# EAGLE library part MCP1640 (library SteveMarple)
MCP1640 0.65V Start-up Synchronous Boost Regulator with True Output Disconnect or Input/Output Bypass Option
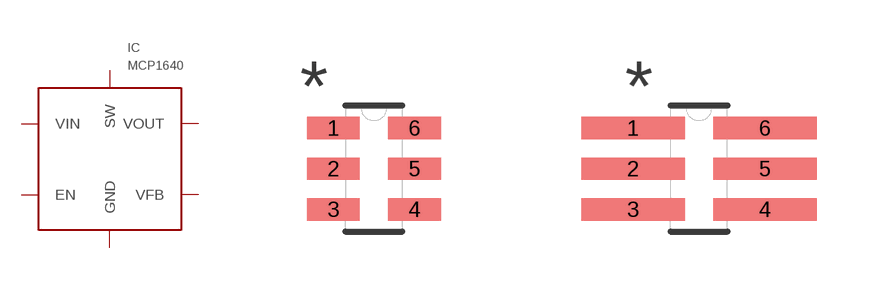
[diagram p19: symbol with the pads of SOT23-6; footprints SOT23-6, SOT23-6-HAND]

Designator prefix IC

## MCP1640  [SOT23-6]
1  SW  pas
2  GND  pwr
3  EN  in
4  VFB  in
5  VOUT  pwr
6  VIN  in

## MCP1640SOT23-6-HAND  [SOT23-6-HAND]
Pads as for SOT23-6

## Footprint SOT23-6 (pad centres in mm)
smd 1.321 x 0.559: 1 -1.016,1.016; 2 -1.016,0; 3 -1.016,-1.016; 4 1.016,-1.016; 5 1.016,0; 6 1.016,1.016

## Footprint SOT23-6-HAND (pad centres in mm)
SOT23-6 HAND SOT23-6 package with footprint designed for easier soldering by hand.
smd 2.591 x 0.559: 1 -1.651,1.016; 2 -1.651,0; 3 -1.651,-1.016; 4 1.651,-1.016; 5 1.651,0; 6 1.651,1.016